# Altium schematic symbol library Other.SchLib: 14 symbols
Pins are listed as number, name and electrical type; pins without a type are passive.

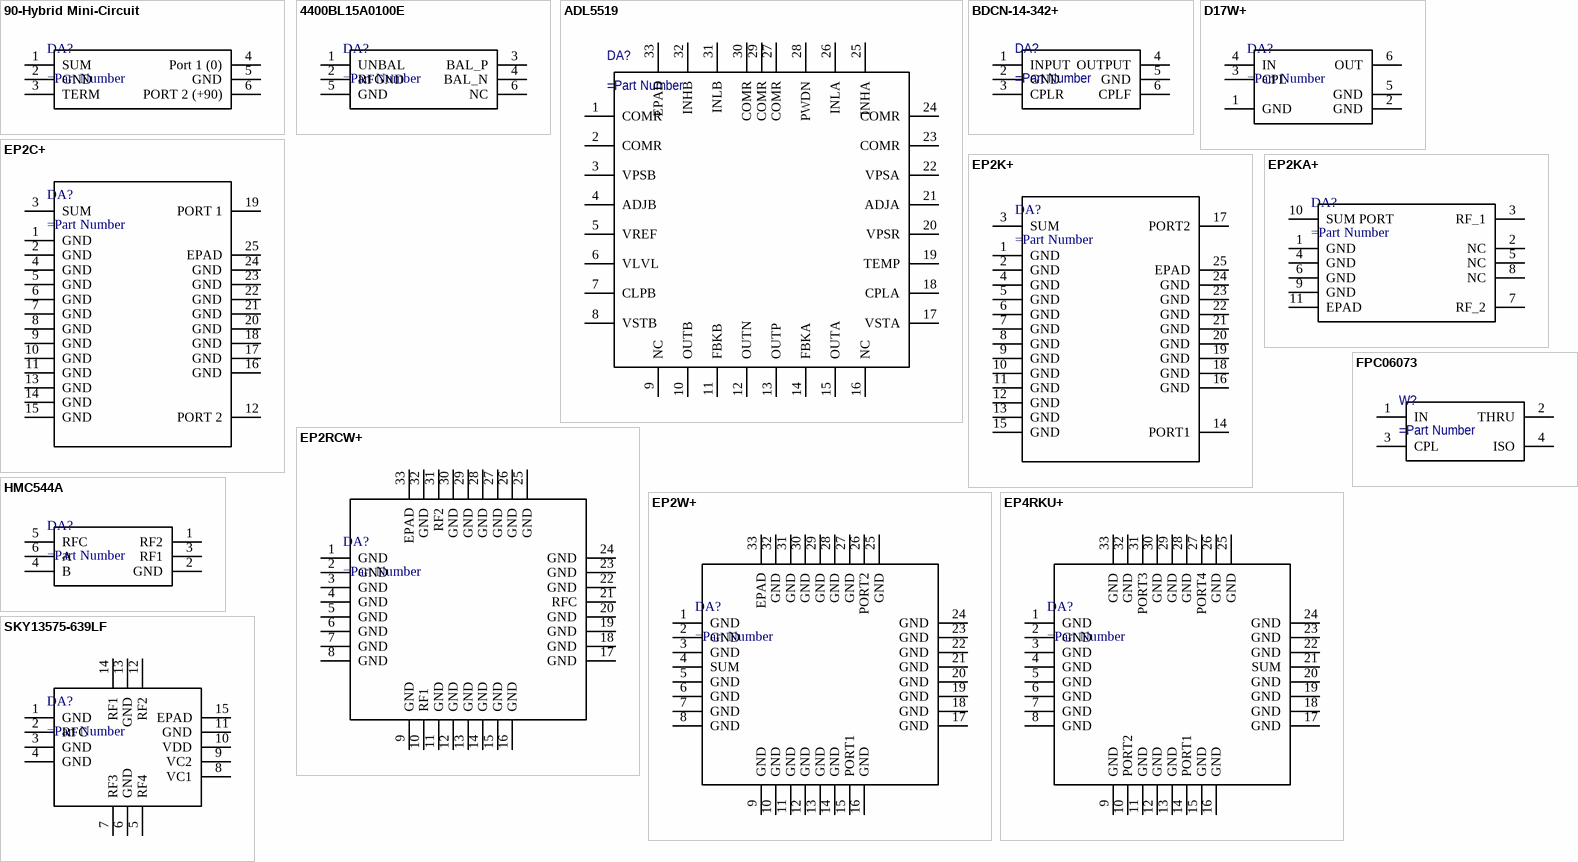
[diagram p0: symbols 90-Hybrid Mini-Circuit to SKY13575-639LF]

## 90-Hybrid Mini-Circuit
designator DA?
pins: 1 SUM, 2 GND, 3 TERM, 4 Port 1 (0), 5 GND, 6 PORT 2 (+90)

## 4400BL15A0100E
designator DA?
pins: 1 UNBAL, 2 RFGND, 3 BAL_P, 4 BAL_N, 5 GND, 6 NC

## ADL5519
designator DA?
pins: 1 COMR, 2 COMR, 3 VPSB, 4 ADJB, 5 VREF, 6 VLVL, 7 CLPB, 8 VSTB, 9 NC, 10 OUTB, 11 FBKB, 12 OUTN, 13 OUTP, 14 FBKA, 15 OUTA, 16 NC, 17 VSTA, 18 CPLA, 19 TEMP, 20 VPSR, 21 ADJA, 22 VPSA, 23 COMR, 24 COMR, 25 INHA, 26 INLA, 27 COMR, 28 PWDN, 29 COMR, 30 COMR, 31 INLB, 32 INHB, 33 EPAD

## BDCN-14-342+
designator DA?
pins: 1 INPUT, 2 GND, 3 CPLR, 4 OUTPUT, 5 GND, 6 CPLF

## D17W+
designator DA?
pins: 1 GND, 2 GND, 3 CPL, 4 IN, 5 GND, 6 OUT

## EP2C+
designator DA?
pins: 1 GND, 2 GND, 3 SUM, 4 GND, 5 GND, 6 GND, 7 GND, 8 GND, 9 GND, 10 GND, 11 GND, 12 PORT 2, 13 GND, 14 GND, 15 GND, 16 GND, 17 GND, 18 GND, 19 PORT 1, 20 GND, 21 GND, 22 GND, 23 GND, 24 GND, 25 EPAD

## EP2K+
designator DA?
pins: 1 GND, 2 GND, 3 SUM, 4 GND, 5 GND, 6 GND, 7 GND, 8 GND, 9 GND, 10 GND, 11 GND, 12 GND, 13 GND, 14 PORT1, 15 GND, 16 GND, 17 PORT2, 18 GND, 19 GND, 20 GND, 21 GND, 22 GND, 23 GND, 24 GND, 25 EPAD

## EP2KA+
designator DA?
pins: 1 GND, 2 NC, 3 RF_1, 4 GND, 5 NC, 6 GND, 7 RF_2, 8 NC, 9 GND, 10 SUM PORT, 11 EPAD

## EP2RCW+
designator DA?
pins: 1 GND, 2 GND, 3 GND, 4 GND, 5 GND, 6 GND, 7 GND, 8 GND, 9 GND, 10 RF1, 11 GND, 12 GND, 13 GND, 14 GND, 15 GND, 16 GND, 17 GND, 18 GND, 19 GND, 20 GND, 21 RFC, 22 GND, 23 GND, 24 GND, 25 GND, 26 GND, 27 GND, 28 GND, 29 GND, 30 GND, 31 RF2, 32 GND, 33 EPAD

## EP2W+
designator DA?
pins: 1 GND, 2 GND, 3 GND, 4 SUM, 5 GND, 6 GND, 7 GND, 8 GND, 9 GND, 10 GND, 11 GND, 12 GND, 13 GND, 14 GND, 15 PORT1, 16 GND, 17 GND, 18 GND, 19 GND, 20 GND, 21 GND, 22 GND, 23 GND, 24 GND, 25 GND, 26 PORT2, 27 GND, 28 GND, 29 GND, 30 GND, 31 GND, 32 GND, 33 EPAD

## EP4RKU+
designator DA?
pins: 1 GND, 2 GND, 3 GND, 4 GND, 5 GND, 6 GND, 7 GND, 8 GND, 9 GND, 10 PORT2, 11 GND, 12 GND, 13 GND, 14 PORT1, 15 GND, 16 GND, 17 GND, 18 GND, 19 GND, 20 GND, 21 SUM, 22 GND, 23 GND, 24 GND, 25 GND, 26 GND, 27 PORT4, 28 GND, 29 GND, 30 GND, 31 PORT3, 32 GND, 33 GND

## FPC06073
designator W?
pins: 1 IN, 2 THRU, 3 CPL, 4 ISO

## HMC544A
designator DA?
pins: 1 RF2, 2 GND, 3 RF1, 4 B, 5 RFC, 6 A

## SKY13575-639LF
designator DA?
pins: 1 GND, 2 RFC, 3 GND, 4 GND, 5 RF4, 6 GND, 7 RF3, 8 VC1, 9 VC2, 10 VDD, 11 GND, 12 RF2, 13 GND, 14 RF1, 15 EPAD